# Altium integrated library NSC Switcher.IntLib: 867 symbols (part 4 of 21)
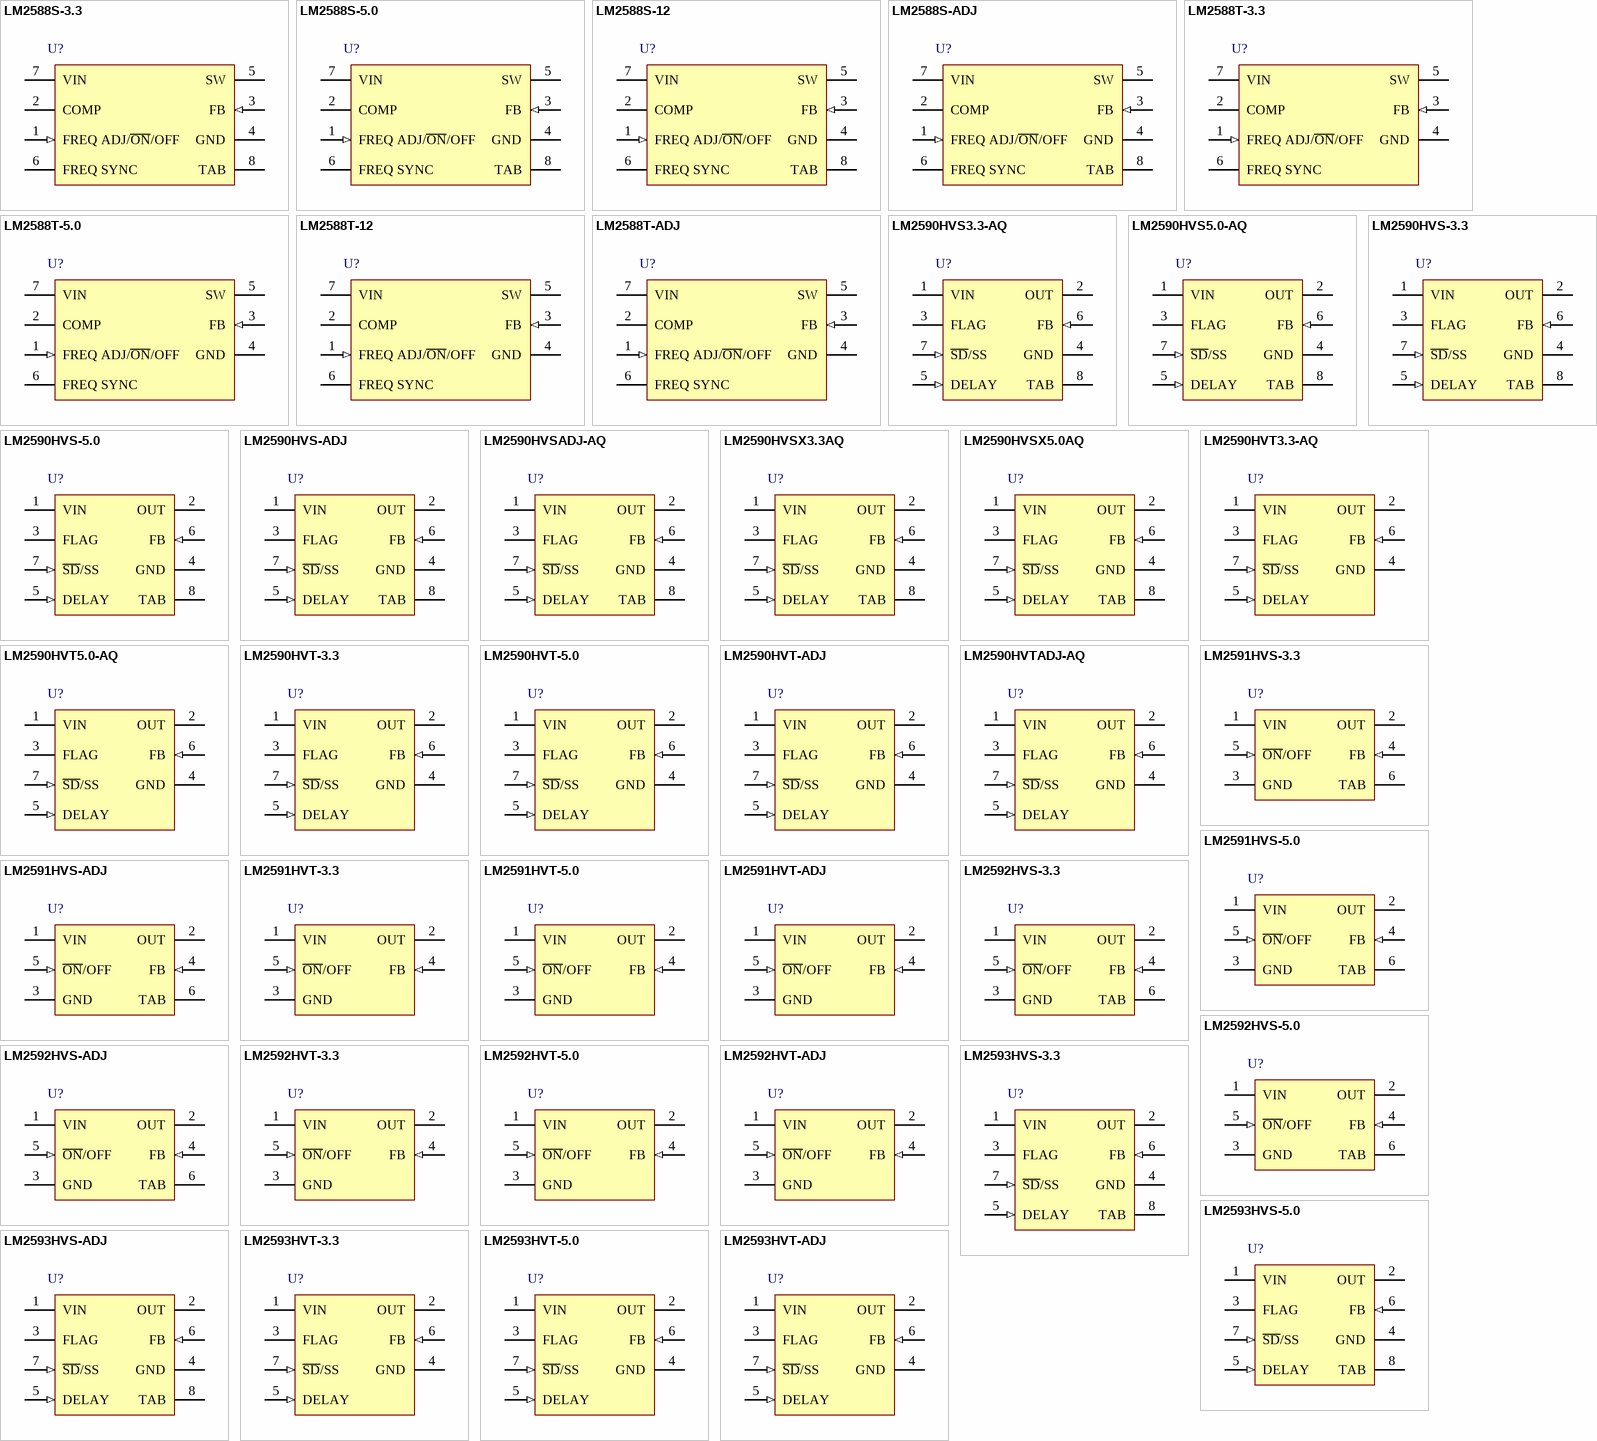
[diagram p29: symbols LM2588S-3.3 to LM2593HVT-ADJ]

## LM2590HVSADJ-AQ
designator U?
SIMPLE SWITCHER Power Converter 150 KHz 1A Step-Down Voltage Regulator with Features; PartNumber: LM2590HVSADJ-AQ; Manufacturer: National Semiconductor; PackageTopMarking: NSUZXYTT*LM2590HVS*ADJ-AQ P+; Published: 4-Dec-2008; PackageVersion: revE, Jul-2003; PackageReference: TS7B; Publisher: Altium Limited; PackageDescription: TO-263, Molded, .400 x .390 x .180in Body, 7 Lead, .050in Pitch, Surface Mount; CompType: Switcher; RoHS: N; PinCount: 7; Code_JEDEC: MO-169-AC; ComponentLink1Description: LM2590HV Datasheet; ComponentLink1URL: http://www.national.com/ds/LM/LM2590HV.pdf; ComponentLink2Description: LM2590HV Web Page; ComponentLink2URL: http://www.national.com/pf/LM/LM2590HV.html; ComponentLink3Description: TS7B Package Page; ComponentLink3URL: http://www.national.com/packaging/folders/ts7b.html
footprint TS7B_N (D2-PAK, 8-Leads, Body 8.6x10.2mm, Pitch 1.27mm, Lead Span 14.1mm, IPC Medium Density)
footprint TS7B_L (D2-PAK, 8-Leads, Body 8.6x10.2mm, Pitch 1.27mm, Lead Span 14.1mm, IPC High Density)
footprint TS7B_M (D2-PAK, 8-Leads, Body 8.6x10.2mm, Pitch 1.27mm, Lead Span 14.1mm, IPC Low Density)
footprint TS7B_M (D2-PAK, 8-Leads, Body 8.6x10.2mm, Pitch 1.27mm, Lead Span 14.1mm, IPC Low Density)
pins: 1 VIN (power), 2 OUT (power), 3 FLAG (oc), 4 GND (power), 5 DELAY (in), 6 FB (in), 7 ~{SD}/SS (in), 8 TAB (power)

## LM2590HVSX3.3AQ
designator U?
SIMPLE SWITCHER Power Converter 150 KHz 1A Step-Down Voltage Regulator with Features; PartNumber: LM2590HVSX3.3AQ; Manufacturer: National Semiconductor; PackageTopMarking: NSUZXYTT*LM2590HVS*3.3-AQ P+; Published: 4-Dec-2008; PackageVersion: revE, Jul-2003; PackageReference: TS7B; Publisher: Altium Limited; PackageDescription: TO-263, Molded, .400 x .390 x .180in Body, 7 Lead, .050in Pitch, Surface Mount; CompType: Switcher; RoHS: N; PinCount: 7; Code_JEDEC: MO-169-AC; ComponentLink1Description: LM2590HV Datasheet; ComponentLink1URL: http://www.national.com/ds/LM/LM2590HV.pdf; ComponentLink2Description: LM2590HV Web Page; ComponentLink2URL: http://www.national.com/pf/LM/LM2590HV.html; ComponentLink3Description: TS7B Package Page; ComponentLink3URL: http://www.national.com/packaging/folders/ts7b.html
footprint TS7B_N (D2-PAK, 8-Leads, Body 8.6x10.2mm, Pitch 1.27mm, Lead Span 14.1mm, IPC Medium Density)
footprint TS7B_L (D2-PAK, 8-Leads, Body 8.6x10.2mm, Pitch 1.27mm, Lead Span 14.1mm, IPC High Density)
footprint TS7B_M (D2-PAK, 8-Leads, Body 8.6x10.2mm, Pitch 1.27mm, Lead Span 14.1mm, IPC Low Density)
footprint TS7B_M (D2-PAK, 8-Leads, Body 8.6x10.2mm, Pitch 1.27mm, Lead Span 14.1mm, IPC Low Density)
pins: 1 VIN (power), 2 OUT (power), 3 FLAG (oc), 4 GND (power), 5 DELAY (in), 6 FB (in), 7 ~{SD}/SS (in), 8 TAB (power)

## LM2590HVSX5.0AQ
designator U?
SIMPLE SWITCHER Power Converter 150 KHz 1A Step-Down Voltage Regulator with Features; PartNumber: LM2590HVSX5.0AQ; Manufacturer: National Semiconductor; PackageTopMarking: NSUZXYTT*LM2590HVS*5.0AQ P+; Published: 4-Dec-2008; PackageVersion: revE, Jul-2003; PackageReference: TS7B; Publisher: Altium Limited; PackageDescription: TO-263, Molded, .400 x .390 x .180in Body, 7 Lead, .050in Pitch, Surface Mount; CompType: Switcher; RoHS: N; PinCount: 7; Code_JEDEC: MO-169-AC; ComponentLink1Description: LM2590HV Datasheet; ComponentLink1URL: http://www.national.com/ds/LM/LM2590HV.pdf; ComponentLink2Description: LM2590HV Web Page; ComponentLink2URL: http://www.national.com/pf/LM/LM2590HV.html; ComponentLink3Description: TS7B Package Page; ComponentLink3URL: http://www.national.com/packaging/folders/ts7b.html
footprint TS7B_N (D2-PAK, 8-Leads, Body 8.6x10.2mm, Pitch 1.27mm, Lead Span 14.1mm, IPC Medium Density)
footprint TS7B_L (D2-PAK, 8-Leads, Body 8.6x10.2mm, Pitch 1.27mm, Lead Span 14.1mm, IPC High Density)
footprint TS7B_M (D2-PAK, 8-Leads, Body 8.6x10.2mm, Pitch 1.27mm, Lead Span 14.1mm, IPC Low Density)
footprint TS7B_M (D2-PAK, 8-Leads, Body 8.6x10.2mm, Pitch 1.27mm, Lead Span 14.1mm, IPC Low Density)
pins: 1 VIN (power), 2 OUT (power), 3 FLAG (oc), 4 GND (power), 5 DELAY (in), 6 FB (in), 7 ~{SD}/SS (in), 8 TAB (power)

## LM2590HVT3.3-AQ
designator U?
SIMPLE SWITCHER Power Converter 150 KHz 1A Step-Down Voltage Regulator with Features; PartNumber: LM2590HVT3.3-AQ; Manufacturer: National Semiconductor; PackageTopMarking: NSUZXYTT*LM2590HVT*3.3-AQ P+; Published: 4-Dec-2008; PackageVersion: revC, Apr-1999; PackageReference: TA07B; Publisher: Altium Limited; PackageDescription: TO-220, Molded, .400 x .590 x .180in Body, 7 Lead, .050in Pitch, Staggered; CompType: Switcher; RoHS: N; PinCount: 7; Code_JEDEC: TO-220-AB; ComponentLink1Description: LM2590HV Datasheet; ComponentLink1URL: http://www.national.com/ds/LM/LM2590HV.pdf; ComponentLink2Description: LM2590HV Web Page; ComponentLink2URL: http://www.national.com/pf/LM/LM2590HV.html; ComponentLink3Description: TA07B Package Page; ComponentLink3URL: http://www.national.com/packaging/folders/ta07b.html
footprint TA07B (TO, Thru-Hole, Vertical, Heatsink Mounted; 7 Bent Staggered Leads; Pitch 1.27 mm)
pins: 1 VIN (power), 2 OUT (power), 3 FLAG (oc), 4 GND (power), 5 DELAY (in), 6 FB (in), 7 ~{SD}/SS (in)

## LM2590HVT5.0-AQ
designator U?
SIMPLE SWITCHER Power Converter 150 KHz 1A Step-Down Voltage Regulator with Features; PartNumber: LM2590HVT5.0-AQ; Manufacturer: National Semiconductor; PackageTopMarking: NSUZXYTT*LM2590HVT*5.0-AQ P+; Published: 4-Dec-2008; PackageVersion: revC, Apr-1999; PackageReference: TA07B; Publisher: Altium Limited; PackageDescription: TO-220, Molded, .400 x .590 x .180in Body, 7 Lead, .050in Pitch, Staggered; CompType: Switcher; RoHS: N; PinCount: 7; Code_JEDEC: TO-220-AB; ComponentLink1Description: LM2590HV Datasheet; ComponentLink1URL: http://www.national.com/ds/LM/LM2590HV.pdf; ComponentLink2Description: LM2590HV Web Page; ComponentLink2URL: http://www.national.com/pf/LM/LM2590HV.html; ComponentLink3Description: TA07B Package Page; ComponentLink3URL: http://www.national.com/packaging/folders/ta07b.html
footprint TA07B (TO, Thru-Hole, Vertical, Heatsink Mounted; 7 Bent Staggered Leads; Pitch 1.27 mm)
pins: 1 VIN (power), 2 OUT (power), 3 FLAG (oc), 4 GND (power), 5 DELAY (in), 6 FB (in), 7 ~{SD}/SS (in)

## LM2590HVT-3.3
designator U?
SIMPLE SWITCHER Power Converter 150 KHz 1A Step-Down Voltage Regulator with Features; PartNumber: LM2590HVT-3.3; Manufacturer: National Semiconductor; PackageTopMarking: NSUZXYTT*LM2590HVT*-3.3 P+; Published: 4-Dec-2008; PackageVersion: revC, Apr-1999; PackageReference: TA07B; Publisher: Altium Limited; PackageDescription: TO-220, Molded, .400 x .590 x .180in Body, 7 Lead, .050in Pitch, Staggered; CompType: Switcher; RoHS: Y; PinCount: 7; DigiKeyPartNumber: LM2590HVT-3.3-ND; Code_JEDEC: TO-220-AB; ComponentLink1Description: LM2590HV Datasheet; ComponentLink1URL: http://www.national.com/ds/LM/LM2590HV.pdf; ComponentLink2Description: LM2590HV Web Page; ComponentLink2URL: http://www.national.com/pf/LM/LM2590HV.html; ComponentLink3Description: TA07B Package Page; ComponentLink3URL: http://www.national.com/packaging/folders/ta07b.html
footprint TA07B (TO, Thru-Hole, Vertical, Heatsink Mounted; 7 Bent Staggered Leads; Pitch 1.27 mm)
pins: 1 VIN (power), 2 OUT (power), 3 FLAG (oc), 4 GND (power), 5 DELAY (in), 6 FB (in), 7 ~{SD}/SS (in)

## LM2590HVT-5.0
designator U?
SIMPLE SWITCHER Power Converter 150 KHz 1A Step-Down Voltage Regulator with Features; PartNumber: LM2590HVT-5.0; Manufacturer: National Semiconductor; PackageTopMarking: NSUZXYTT*LM2590HVT*-5.0 P+; Published: 4-Dec-2008; PackageVersion: revC, Apr-1999; PackageReference: TA07B; Publisher: Altium Limited; PackageDescription: TO-220, Molded, .400 x .590 x .180in Body, 7 Lead, .050in Pitch, Staggered; CompType: Switcher; RoHS: Y; PinCount: 7; DigiKeyPartNumber: LM2590HVT-5.0-ND; Code_JEDEC: TO-220-AB; ComponentLink1Description: LM2590HV Datasheet; ComponentLink1URL: http://www.national.com/ds/LM/LM2590HV.pdf; ComponentLink2Description: LM2590HV Web Page; ComponentLink2URL: http://www.national.com/pf/LM/LM2590HV.html; ComponentLink3Description: TA07B Package Page; ComponentLink3URL: http://www.national.com/packaging/folders/ta07b.html
footprint TA07B (TO, Thru-Hole, Vertical, Heatsink Mounted; 7 Bent Staggered Leads; Pitch 1.27 mm)
pins: 1 VIN (power), 2 OUT (power), 3 FLAG (oc), 4 GND (power), 5 DELAY (in), 6 FB (in), 7 ~{SD}/SS (in)

## LM2590HVT-ADJ
designator U?
SIMPLE SWITCHER Power Converter 150 KHz 1A Step-Down Voltage Regulator with Features; PartNumber: LM2590HVT-ADJ; Manufacturer: National Semiconductor; PackageTopMarking: NSUZXYTT*LM2590HVT*-ADJ P+; Published: 4-Dec-2008; PackageVersion: revC, Apr-1999; PackageReference: TA07B; Publisher: Altium Limited; PackageDescription: TO-220, Molded, .400 x .590 x .180in Body, 7 Lead, .050in Pitch, Staggered; CompType: Switcher; RoHS: O; PinCount: 7; DigiKeyPartNumber: LM2590HVT-ADJ-ND; Code_JEDEC: TO-220-AB; ComponentLink1Description: LM2590HV Datasheet; ComponentLink1URL: http://www.national.com/ds/LM/LM2590HV.pdf; ComponentLink2Description: LM2590HV Web Page; ComponentLink2URL: http://www.national.com/pf/LM/LM2590HV.html; ComponentLink3Description: TA07B Package Page; ComponentLink3URL: http://www.national.com/packaging/folders/ta07b.html
footprint TA07B (TO, Thru-Hole, Vertical, Heatsink Mounted; 7 Bent Staggered Leads; Pitch 1.27 mm)
pins: 1 VIN (power), 2 OUT (power), 3 FLAG (oc), 4 GND (power), 5 DELAY (in), 6 FB (in), 7 ~{SD}/SS (in)

## LM2590HVTADJ-AQ
designator U?
SIMPLE SWITCHER Power Converter 150 KHz 1A Step-Down Voltage Regulator with Features; PartNumber: LM2590HVTADJ-AQ; Manufacturer: National Semiconductor; PackageTopMarking: NSUZXYTT*LM2590HVT*ADJ-AQ P+; Published: 4-Dec-2008; PackageVersion: revC, Apr-1999; PackageReference: TA07B; Publisher: Altium Limited; PackageDescription: TO-220, Molded, .400 x .590 x .180in Body, 7 Lead, .050in Pitch, Staggered; CompType: Switcher; RoHS: N; PinCount: 7; Code_JEDEC: TO-220-AB; ComponentLink1Description: LM2590HV Datasheet; ComponentLink1URL: http://www.national.com/ds/LM/LM2590HV.pdf; ComponentLink2Description: LM2590HV Web Page; ComponentLink2URL: http://www.national.com/pf/LM/LM2590HV.html; ComponentLink3Description: TA07B Package Page; ComponentLink3URL: http://www.national.com/packaging/folders/ta07b.html
footprint TA07B (TO, Thru-Hole, Vertical, Heatsink Mounted; 7 Bent Staggered Leads; Pitch 1.27 mm)
pins: 1 VIN (power), 2 OUT (power), 3 FLAG (oc), 4 GND (power), 5 DELAY (in), 6 FB (in), 7 ~{SD}/SS (in)

## LM2591HVS-3.3
designator U?
SIMPLE SWITCHER Power Converter 150 kHz 1A Step-Down Voltage Regulator; PartNumber: LM2591HVS-3.3; Manufacturer: National Semiconductor; PackageTopMarking: NSUZXYTT*LM2591HVS*-3.3 P+; Published: 4-Dec-2008; PackageVersion: revD, Apr-2005; PackageReference: TS5B; Publisher: Altium Limited; PackageDescription: TO-263, Molded, .400 x .390 x .180in, 5 Lead, .067in Pitch, Surface Mount; CompType: Switcher; RoHS: Y; PinCount: 5; DigiKeyPartNumber: LM2591HVS-3.3-ND; Code_JEDEC: MO-169-AB; ComponentLink1Description: LM2591HV Datasheet; ComponentLink1URL: http://www.national.com/ds/LM/LM2591HV.pdf; ComponentLink2Description: LM2591HV Web Page; ComponentLink2URL: http://www.national.com/pf/LM/LM2591HV.html; ComponentLink3Description: TS5B Package Page; ComponentLink3URL: http://www.national.com/packaging/folders/ts5b.html
footprint TS5B_N (D2-PAK, 6-Leads, Body 8.6x10.2mm, Pitch 1.7mm, Lead Span 14.1mm, IPC Medium Density)
footprint TS5B_L (D2-PAK, 6-Leads, Body 8.6x10.2mm, Pitch 1.7mm, Lead Span 14.1mm, IPC High Density)
footprint TS5B_M (D2-PAK, 6-Leads, Body 8.6x10.2mm, Pitch 1.7mm, Lead Span 14.1mm, IPC Low Density)
footprint TS5B_M (D2-PAK, 6-Leads, Body 8.6x10.2mm, Pitch 1.7mm, Lead Span 14.1mm, IPC Low Density)
pins: 1 VIN (power), 2 OUT (power), 3 GND (power), 4 FB (in), 5 ~{ON}/OFF (in), 6 TAB (power)

## LM2591HVS-5.0
designator U?
SIMPLE SWITCHER Power Converter 150 kHz 1A Step-Down Voltage Regulator; PartNumber: LM2591HVS-5.0; Manufacturer: National Semiconductor; PackageTopMarking: NSUZXYTT*LM2591HVS*-5.0 P+; Published: 4-Dec-2008; PackageVersion: revD, Apr-2005; PackageReference: TS5B; Publisher: Altium Limited; PackageDescription: TO-263, Molded, .400 x .390 x .180in, 5 Lead, .067in Pitch, Surface Mount; CompType: Switcher; RoHS: Y; PinCount: 5; DigiKeyPartNumber: LM2591HVS-5.0-ND; Code_JEDEC: MO-169-AB; ComponentLink1Description: LM2591HV Datasheet; ComponentLink1URL: http://www.national.com/ds/LM/LM2591HV.pdf; ComponentLink2Description: LM2591HV Web Page; ComponentLink2URL: http://www.national.com/pf/LM/LM2591HV.html; ComponentLink3Description: TS5B Package Page; ComponentLink3URL: http://www.national.com/packaging/folders/ts5b.html
footprint TS5B_N (D2-PAK, 6-Leads, Body 8.6x10.2mm, Pitch 1.7mm, Lead Span 14.1mm, IPC Medium Density)
footprint TS5B_L (D2-PAK, 6-Leads, Body 8.6x10.2mm, Pitch 1.7mm, Lead Span 14.1mm, IPC High Density)
footprint TS5B_M (D2-PAK, 6-Leads, Body 8.6x10.2mm, Pitch 1.7mm, Lead Span 14.1mm, IPC Low Density)
footprint TS5B_M (D2-PAK, 6-Leads, Body 8.6x10.2mm, Pitch 1.7mm, Lead Span 14.1mm, IPC Low Density)
pins: 1 VIN (power), 2 OUT (power), 3 GND (power), 4 FB (in), 5 ~{ON}/OFF (in), 6 TAB (power)

## LM2591HVS-ADJ
designator U?
SIMPLE SWITCHER Power Converter 150 kHz 1A Step-Down Voltage Regulator; PartNumber: LM2591HVS-ADJ; Manufacturer: National Semiconductor; PackageTopMarking: NSUZXYTT*LM2591HVS*-ADJ P+; Published: 4-Dec-2008; PackageVersion: revD, Apr-2005; PackageReference: TS5B; Publisher: Altium Limited; PackageDescription: TO-263, Molded, .400 x .390 x .180in, 5 Lead, .067in Pitch, Surface Mount; CompType: Switcher; RoHS: O; PinCount: 5; DigiKeyPartNumber: LM2591HVS-ADJ-ND; Code_JEDEC: MO-169-AB; ComponentLink1Description: LM2591HV Datasheet; ComponentLink1URL: http://www.national.com/ds/LM/LM2591HV.pdf; ComponentLink2Description: LM2591HV Web Page; ComponentLink2URL: http://www.national.com/pf/LM/LM2591HV.html; ComponentLink3Description: TS5B Package Page; ComponentLink3URL: http://www.national.com/packaging/folders/ts5b.html
footprint TS5B_N (D2-PAK, 6-Leads, Body 8.6x10.2mm, Pitch 1.7mm, Lead Span 14.1mm, IPC Medium Density)
footprint TS5B_L (D2-PAK, 6-Leads, Body 8.6x10.2mm, Pitch 1.7mm, Lead Span 14.1mm, IPC High Density)
footprint TS5B_M (D2-PAK, 6-Leads, Body 8.6x10.2mm, Pitch 1.7mm, Lead Span 14.1mm, IPC Low Density)
footprint TS5B_M (D2-PAK, 6-Leads, Body 8.6x10.2mm, Pitch 1.7mm, Lead Span 14.1mm, IPC Low Density)
pins: 1 VIN (power), 2 OUT (power), 3 GND (power), 4 FB (in), 5 ~{ON}/OFF (in), 6 TAB (power)

## LM2591HVT-3.3
designator U?
SIMPLE SWITCHER Power Converter 150 kHz 1A Step-Down Voltage Regulator; PartNumber: LM2591HVT-3.3; Manufacturer: National Semiconductor; PackageTopMarking: NSUZXYTT*LM2591HVT*-3.3 P+; Published: 4-Dec-2008; PackageVersion: revA, Oct-1989; PackageReference: T05D; Publisher: Altium Limited; PackageDescription: TO-220, Molded, Stagger Bend, 5 Lead; CompType: Switcher; RoHS: Y; PinCount: 5; DigiKeyPartNumber: LM2591HVT-3.3-ND; ComponentLink1Description: LM2591HV Datasheet; ComponentLink1URL: http://www.national.com/ds/LM/LM2591HV.pdf; ComponentLink2Description: LM2591HV Web Page; ComponentLink2URL: http://www.national.com/pf/LM/LM2591HV.html; ComponentLink3Description: T05D Package Page; ComponentLink3URL: http://www.national.com/packaging/folders/t05d.html
footprint T05D (TO, Thru-Hole, Vertical, Heatsink Mounted; 5 Bent Staggered Leads; Pitch 1.7 mm)
pins: 1 VIN (power), 2 OUT (power), 3 GND (power), 4 FB (in), 5 ~{ON}/OFF (in)

## LM2591HVT-5.0
designator U?
SIMPLE SWITCHER Power Converter 150 kHz 1A Step-Down Voltage Regulator; PartNumber: LM2591HVT-5.0; Manufacturer: National Semiconductor; PackageTopMarking: NSUZXYTT*LM2591HVT*-5.0 P+; Published: 4-Dec-2008; PackageVersion: revA, Oct-1989; PackageReference: T05D; Publisher: Altium Limited; PackageDescription: TO-220, Molded, Stagger Bend, 5 Lead; CompType: Switcher; RoHS: Y; PinCount: 5; DigiKeyPartNumber: LM2591HVT-5.0-ND; ComponentLink1Description: LM2591HV Datasheet; ComponentLink1URL: http://www.national.com/ds/LM/LM2591HV.pdf; ComponentLink2Description: LM2591HV Web Page; ComponentLink2URL: http://www.national.com/pf/LM/LM2591HV.html; ComponentLink3Description: T05D Package Page; ComponentLink3URL: http://www.national.com/packaging/folders/t05d.html
footprint T05D (TO, Thru-Hole, Vertical, Heatsink Mounted; 5 Bent Staggered Leads; Pitch 1.7 mm)
pins: 1 VIN (power), 2 OUT (power), 3 GND (power), 4 FB (in), 5 ~{ON}/OFF (in)

## LM2591HVT-ADJ
designator U?
SIMPLE SWITCHER Power Converter 150 kHz 1A Step-Down Voltage Regulator; PartNumber: LM2591HVT-ADJ; Manufacturer: National Semiconductor; PackageTopMarking: NSUZXYTT*LM2591HVT*-ADJ P+; Published: 4-Dec-2008; PackageVersion: revA, Oct-1989; PackageReference: T05D; Publisher: Altium Limited; PackageDescription: TO-220, Molded, Stagger Bend, 5 Lead; CompType: Switcher; RoHS: Y; PinCount: 5; DigiKeyPartNumber: LM2591HVT-ADJ-ND; ComponentLink1Description: LM2591HV Datasheet; ComponentLink1URL: http://www.national.com/ds/LM/LM2591HV.pdf; ComponentLink2Description: LM2591HV Web Page; ComponentLink2URL: http://www.national.com/pf/LM/LM2591HV.html; ComponentLink3Description: T05D Package Page; ComponentLink3URL: http://www.national.com/packaging/folders/t05d.html
footprint T05D (TO, Thru-Hole, Vertical, Heatsink Mounted; 5 Bent Staggered Leads; Pitch 1.7 mm)
pins: 1 VIN (power), 2 OUT (power), 3 GND (power), 4 FB (in), 5 ~{ON}/OFF (in)

## LM2592HVS-3.3
designator U?
SIMPLE SWITCHER Power Converter 150 KHz 2A Step-Down Voltage Regulator; PartNumber: LM2592HVS-3.3; Manufacturer: National Semiconductor; PackageTopMarking: NSUZXYTT*LM2592HVS*-3.3 P+; Published: 4-Dec-2008; PackageVersion: revD, Apr-2005; PackageReference: TS5B; Publisher: Altium Limited; PackageDescription: TO-263, Molded, .400 x .390 x .180in, 5 Lead, .067in Pitch, Surface Mount; CompType: Switcher; RoHS: O; PinCount: 5; DigiKeyPartNumber: LM2592HVS-3.3-ND; Code_JEDEC: MO-169-AB; ComponentLink1Description: LM2592HV Datasheet; ComponentLink1URL: http://www.national.com/ds/LM/LM2592HV.pdf; ComponentLink2Description: LM2592HV Web Page; ComponentLink2URL: http://www.national.com/pf/LM/LM2592HV.html; ComponentLink3Description: TS5B Package Page; ComponentLink3URL: http://www.national.com/packaging/folders/ts5b.html
footprint TS5B_N (D2-PAK, 6-Leads, Body 8.6x10.2mm, Pitch 1.7mm, Lead Span 14.1mm, IPC Medium Density)
footprint TS5B_L (D2-PAK, 6-Leads, Body 8.6x10.2mm, Pitch 1.7mm, Lead Span 14.1mm, IPC High Density)
footprint TS5B_M (D2-PAK, 6-Leads, Body 8.6x10.2mm, Pitch 1.7mm, Lead Span 14.1mm, IPC Low Density)
footprint TS5B_M (D2-PAK, 6-Leads, Body 8.6x10.2mm, Pitch 1.7mm, Lead Span 14.1mm, IPC Low Density)
pins: 1 VIN (power), 2 OUT (power), 3 GND (power), 4 FB (in), 5 ~{ON}/OFF (in), 6 TAB (power)

## LM2592HVS-5.0
designator U?
SIMPLE SWITCHER Power Converter 150 KHz 2A Step-Down Voltage Regulator; PartNumber: LM2592HVS-5.0; Manufacturer: National Semiconductor; PackageTopMarking: NSUZXYTT*LM2592HVS*-5.0 P+; Published: 4-Dec-2008; PackageVersion: revD, Apr-2005; PackageReference: TS5B; Publisher: Altium Limited; PackageDescription: TO-263, Molded, .400 x .390 x .180in, 5 Lead, .067in Pitch, Surface Mount; CompType: Switcher; RoHS: O; PinCount: 5; DigiKeyPartNumber: LM2592HVS-5.0-ND; Code_JEDEC: MO-169-AB; ComponentLink1Description: LM2592HV Datasheet; ComponentLink1URL: http://www.national.com/ds/LM/LM2592HV.pdf; ComponentLink2Description: LM2592HV Web Page; ComponentLink2URL: http://www.national.com/pf/LM/LM2592HV.html; ComponentLink3Description: TS5B Package Page; ComponentLink3URL: http://www.national.com/packaging/folders/ts5b.html
footprint TS5B_N (D2-PAK, 6-Leads, Body 8.6x10.2mm, Pitch 1.7mm, Lead Span 14.1mm, IPC Medium Density)
footprint TS5B_L (D2-PAK, 6-Leads, Body 8.6x10.2mm, Pitch 1.7mm, Lead Span 14.1mm, IPC High Density)
footprint TS5B_M (D2-PAK, 6-Leads, Body 8.6x10.2mm, Pitch 1.7mm, Lead Span 14.1mm, IPC Low Density)
footprint TS5B_M (D2-PAK, 6-Leads, Body 8.6x10.2mm, Pitch 1.7mm, Lead Span 14.1mm, IPC Low Density)
pins: 1 VIN (power), 2 OUT (power), 3 GND (power), 4 FB (in), 5 ~{ON}/OFF (in), 6 TAB (power)

## LM2592HVS-ADJ
designator U?
SIMPLE SWITCHER Power Converter 150 KHz 2A Step-Down Voltage Regulator; PartNumber: LM2592HVS-ADJ; Manufacturer: National Semiconductor; PackageTopMarking: NSUZXYTT*LM2592HVS*-ADJ P+; Published: 4-Dec-2008; PackageVersion: revD, Apr-2005; PackageReference: TS5B; Publisher: Altium Limited; PackageDescription: TO-263, Molded, .400 x .390 x .180in, 5 Lead, .067in Pitch, Surface Mount; CompType: Switcher; RoHS: O; PinCount: 5; DigiKeyPartNumber: LM2592HVS-ADJ-ND; Code_JEDEC: MO-169-AB; ComponentLink1Description: LM2592HV Datasheet; ComponentLink1URL: http://www.national.com/ds/LM/LM2592HV.pdf; ComponentLink2Description: LM2592HV Web Page; ComponentLink2URL: http://www.national.com/pf/LM/LM2592HV.html; ComponentLink3Description: TS5B Package Page; ComponentLink3URL: http://www.national.com/packaging/folders/ts5b.html
footprint TS5B_N (D2-PAK, 6-Leads, Body 8.6x10.2mm, Pitch 1.7mm, Lead Span 14.1mm, IPC Medium Density)
footprint TS5B_L (D2-PAK, 6-Leads, Body 8.6x10.2mm, Pitch 1.7mm, Lead Span 14.1mm, IPC High Density)
footprint TS5B_M (D2-PAK, 6-Leads, Body 8.6x10.2mm, Pitch 1.7mm, Lead Span 14.1mm, IPC Low Density)
footprint TS5B_M (D2-PAK, 6-Leads, Body 8.6x10.2mm, Pitch 1.7mm, Lead Span 14.1mm, IPC Low Density)
pins: 1 VIN (power), 2 OUT (power), 3 GND (power), 4 FB (in), 5 ~{ON}/OFF (in), 6 TAB (power)

## LM2592HVT-3.3
designator U?
SIMPLE SWITCHER Power Converter 150 KHz 2A Step-Down Voltage Regulator; PartNumber: LM2592HVT-3.3; Manufacturer: National Semiconductor; PackageTopMarking: NSUZXYTT*LM2592HVT*-3.3 P+; Published: 4-Dec-2008; PackageVersion: revA, Oct-1989; PackageReference: T05D; Publisher: Altium Limited; PackageDescription: TO-220, Molded, Stagger Bend, 5 Lead; CompType: Switcher; RoHS: Y; PinCount: 5; DigiKeyPartNumber: LM2592HVT-3.3-ND; ComponentLink1Description: LM2592HV Datasheet; ComponentLink1URL: http://www.national.com/ds/LM/LM2592HV.pdf; ComponentLink2Description: LM2592HV Web Page; ComponentLink2URL: http://www.national.com/pf/LM/LM2592HV.html; ComponentLink3Description: T05D Package Page; ComponentLink3URL: http://www.national.com/packaging/folders/t05d.html
footprint T05D (TO, Thru-Hole, Vertical, Heatsink Mounted; 5 Bent Staggered Leads; Pitch 1.7 mm)
pins: 1 VIN (power), 2 OUT (power), 3 GND (power), 4 FB (in), 5 ~{ON}/OFF (in)

## LM2592HVT-5.0
designator U?
SIMPLE SWITCHER Power Converter 150 KHz 2A Step-Down Voltage Regulator; PartNumber: LM2592HVT-5.0; Manufacturer: National Semiconductor; PackageTopMarking: NSUZXYTT*LM2592HVT*-5.0 P+; Published: 4-Dec-2008; PackageVersion: revA, Oct-1989; PackageReference: T05D; Publisher: Altium Limited; PackageDescription: TO-220, Molded, Stagger Bend, 5 Lead; CompType: Switcher; RoHS: Y; PinCount: 5; DigiKeyPartNumber: LM2592HVT-5.0-ND; ComponentLink1Description: LM2592HV Datasheet; ComponentLink1URL: http://www.national.com/ds/LM/LM2592HV.pdf; ComponentLink2Description: LM2592HV Web Page; ComponentLink2URL: http://www.national.com/pf/LM/LM2592HV.html; ComponentLink3Description: T05D Package Page; ComponentLink3URL: http://www.national.com/packaging/folders/t05d.html
footprint T05D (TO, Thru-Hole, Vertical, Heatsink Mounted; 5 Bent Staggered Leads; Pitch 1.7 mm)
pins: 1 VIN (power), 2 OUT (power), 3 GND (power), 4 FB (in), 5 ~{ON}/OFF (in)

## LM2592HVT-ADJ
designator U?
SIMPLE SWITCHER Power Converter 150 KHz 2A Step-Down Voltage Regulator; PartNumber: LM2592HVT-ADJ; Manufacturer: National Semiconductor; PackageTopMarking: NSUZXYTT*LM2592HVT*-ADJ P+; Published: 4-Dec-2008; PackageVersion: revA, Oct-1989; PackageReference: T05D; Publisher: Altium Limited; PackageDescription: TO-220, Molded, Stagger Bend, 5 Lead; CompType: Switcher; RoHS: O; PinCount: 5; DigiKeyPartNumber: LM2592HVT-ADJ-ND; ComponentLink1Description: LM2592HV Datasheet; ComponentLink1URL: http://www.national.com/ds/LM/LM2592HV.pdf; ComponentLink2Description: LM2592HV Web Page; ComponentLink2URL: http://www.national.com/pf/LM/LM2592HV.html; ComponentLink3Description: T05D Package Page; ComponentLink3URL: http://www.national.com/packaging/folders/t05d.html
footprint T05D (TO, Thru-Hole, Vertical, Heatsink Mounted; 5 Bent Staggered Leads; Pitch 1.7 mm)
pins: 1 VIN (power), 2 OUT (power), 3 GND (power), 4 FB (in), 5 ~{ON}/OFF (in)

## LM2593HVS-3.3
designator U?
SIMPLE SWITCHER Power Converter 150 KHz 2A Step-Down Voltage Regulator with Features; PartNumber: LM2593HVS-3.3; Manufacturer: National Semiconductor; PackageTopMarking: NSUZXYTT*LM2593HVS*-3.3 P+; Published: 4-Dec-2008; PackageVersion: revE, Jul-2003; PackageReference: TS7B; Publisher: Altium Limited; PackageDescription: TO-263, Molded, .400 x .390 x .180in Body, 7 Lead, .050in Pitch, Surface Mount; CompType: Switcher; RoHS: Y; PinCount: 7; DigiKeyPartNumber: LM2593HVS-3.3-ND; Code_JEDEC: MO-169-AC; ComponentLink1Description: LM2593HV Datasheet; ComponentLink1URL: http://www.national.com/ds/LM/LM2593HV.pdf; ComponentLink2Description: LM2593HV Web Page; ComponentLink2URL: http://www.national.com/pf/LM/LM2593HV.html; ComponentLink3Description: TS7B Package Page; ComponentLink3URL: http://www.national.com/packaging/folders/ts7b.html
footprint TS7B_N (D2-PAK, 8-Leads, Body 8.6x10.2mm, Pitch 1.27mm, Lead Span 14.1mm, IPC Medium Density)
footprint TS7B_L (D2-PAK, 8-Leads, Body 8.6x10.2mm, Pitch 1.27mm, Lead Span 14.1mm, IPC High Density)
footprint TS7B_M (D2-PAK, 8-Leads, Body 8.6x10.2mm, Pitch 1.27mm, Lead Span 14.1mm, IPC Low Density)
footprint TS7B_M (D2-PAK, 8-Leads, Body 8.6x10.2mm, Pitch 1.27mm, Lead Span 14.1mm, IPC Low Density)
pins: 1 VIN (power), 2 OUT (power), 3 FLAG (oc), 4 GND (power), 5 DELAY (in), 6 FB (in), 7 ~{SD}/SS (in), 8 TAB (power)

## LM2593HVS-5.0
designator U?
SIMPLE SWITCHER Power Converter 150 KHz 2A Step-Down Voltage Regulator with Features; PartNumber: LM2593HVS-5.0; Manufacturer: National Semiconductor; PackageTopMarking: NSUZXYTT*LM2593HVS*-5.0 P+; Published: 4-Dec-2008; PackageVersion: revE, Jul-2003; PackageReference: TS7B; Publisher: Altium Limited; PackageDescription: TO-263, Molded, .400 x .390 x .180in Body, 7 Lead, .050in Pitch, Surface Mount; CompType: Switcher; RoHS: Y; PinCount: 7; DigiKeyPartNumber: LM2593HVS-5.0-ND; Code_JEDEC: MO-169-AC; ComponentLink1Description: LM2593HV Datasheet; ComponentLink1URL: http://www.national.com/ds/LM/LM2593HV.pdf; ComponentLink2Description: LM2593HV Web Page; ComponentLink2URL: http://www.national.com/pf/LM/LM2593HV.html; ComponentLink3Description: TS7B Package Page; ComponentLink3URL: http://www.national.com/packaging/folders/ts7b.html
footprint TS7B_N (D2-PAK, 8-Leads, Body 8.6x10.2mm, Pitch 1.27mm, Lead Span 14.1mm, IPC Medium Density)
footprint TS7B_L (D2-PAK, 8-Leads, Body 8.6x10.2mm, Pitch 1.27mm, Lead Span 14.1mm, IPC High Density)
footprint TS7B_M (D2-PAK, 8-Leads, Body 8.6x10.2mm, Pitch 1.27mm, Lead Span 14.1mm, IPC Low Density)
footprint TS7B_M (D2-PAK, 8-Leads, Body 8.6x10.2mm, Pitch 1.27mm, Lead Span 14.1mm, IPC Low Density)
pins: 1 VIN (power), 2 OUT (power), 3 FLAG (oc), 4 GND (power), 5 DELAY (in), 6 FB (in), 7 ~{SD}/SS (in), 8 TAB (power)

## LM2593HVS-ADJ
designator U?
SIMPLE SWITCHER Power Converter 150 KHz 2A Step-Down Voltage Regulator with Features; PartNumber: LM2593HVS-ADJ; Manufacturer: National Semiconductor; PackageTopMarking: NSUZXYTT*LM2593HVS*-ADJ P+; Published: 4-Dec-2008; PackageVersion: revE, Jul-2003; PackageReference: TS7B; Publisher: Altium Limited; PackageDescription: TO-263, Molded, .400 x .390 x .180in Body, 7 Lead, .050in Pitch, Surface Mount; CompType: Switcher; RoHS: O; PinCount: 7; DigiKeyPartNumber: LM2593HVS-ADJ-ND; Code_JEDEC: MO-169-AC; ComponentLink1Description: LM2593HV Datasheet; ComponentLink1URL: http://www.national.com/ds/LM/LM2593HV.pdf; ComponentLink2Description: LM2593HV Web Page; ComponentLink2URL: http://www.national.com/pf/LM/LM2593HV.html; ComponentLink3Description: TS7B Package Page; ComponentLink3URL: http://www.national.com/packaging/folders/ts7b.html
footprint TS7B_N (D2-PAK, 8-Leads, Body 8.6x10.2mm, Pitch 1.27mm, Lead Span 14.1mm, IPC Medium Density)
footprint TS7B_L (D2-PAK, 8-Leads, Body 8.6x10.2mm, Pitch 1.27mm, Lead Span 14.1mm, IPC High Density)
footprint TS7B_M (D2-PAK, 8-Leads, Body 8.6x10.2mm, Pitch 1.27mm, Lead Span 14.1mm, IPC Low Density)
footprint TS7B_M (D2-PAK, 8-Leads, Body 8.6x10.2mm, Pitch 1.27mm, Lead Span 14.1mm, IPC Low Density)
pins: 1 VIN (power), 2 OUT (power), 3 FLAG (oc), 4 GND (power), 5 DELAY (in), 6 FB (in), 7 ~{SD}/SS (in), 8 TAB (power)

## LM2593HVT-3.3
designator U?
SIMPLE SWITCHER Power Converter 150 KHz 2A Step-Down Voltage Regulator with Features; PartNumber: LM2593HVT-3.3; Manufacturer: National Semiconductor; PackageTopMarking: NSUZXYTT*LM2593HVT*-3.3 P+; Published: 4-Dec-2008; PackageVersion: revC, Apr-1999; PackageReference: TA07B; Publisher: Altium Limited; PackageDescription: TO-220, Molded, .400 x .590 x .180in Body, 7 Lead, .050in Pitch, Staggered; CompType: Switcher; RoHS: Y; PinCount: 7; DigiKeyPartNumber: LM2593HVT-3.3-ND; Code_JEDEC: TO-220-AB; ComponentLink1Description: LM2593HV Datasheet; ComponentLink1URL: http://www.national.com/ds/LM/LM2593HV.pdf; ComponentLink2Description: LM2593HV Web Page; ComponentLink2URL: http://www.national.com/pf/LM/LM2593HV.html; ComponentLink3Description: TA07B Package Page; ComponentLink3URL: http://www.national.com/packaging/folders/ta07b.html
footprint TA07B (TO, Thru-Hole, Vertical, Heatsink Mounted; 7 Bent Staggered Leads; Pitch 1.27 mm)
pins: 1 VIN (power), 2 OUT (power), 3 FLAG (oc), 4 GND (power), 5 DELAY (in), 6 FB (in), 7 ~{SD}/SS (in)

## LM2593HVT-5.0
designator U?
SIMPLE SWITCHER Power Converter 150 KHz 2A Step-Down Voltage Regulator with Features; PartNumber: LM2593HVT-5.0; Manufacturer: National Semiconductor; PackageTopMarking: NSUZXYTT*LM2593HVT*-5.0 P+; Published: 4-Dec-2008; PackageVersion: revC, Apr-1999; PackageReference: TA07B; Publisher: Altium Limited; PackageDescription: TO-220, Molded, .400 x .590 x .180in Body, 7 Lead, .050in Pitch, Staggered; CompType: Switcher; RoHS: Y; PinCount: 7; DigiKeyPartNumber: LM2593HVT-5.0-ND; Code_JEDEC: TO-220-AB; ComponentLink1Description: LM2593HV Datasheet; ComponentLink1URL: http://www.national.com/ds/LM/LM2593HV.pdf; ComponentLink2Description: LM2593HV Web Page; ComponentLink2URL: http://www.national.com/pf/LM/LM2593HV.html; ComponentLink3Description: TA07B Package Page; ComponentLink3URL: http://www.national.com/packaging/folders/ta07b.html
footprint TA07B (TO, Thru-Hole, Vertical, Heatsink Mounted; 7 Bent Staggered Leads; Pitch 1.27 mm)
pins: 1 VIN (power), 2 OUT (power), 3 FLAG (oc), 4 GND (power), 5 DELAY (in), 6 FB (in), 7 ~{SD}/SS (in)

## LM2593HVT-ADJ
designator U?
SIMPLE SWITCHER Power Converter 150 KHz 2A Step-Down Voltage Regulator with Features; PartNumber: LM2593HVT-ADJ; Manufacturer: National Semiconductor; PackageTopMarking: NSUZXYTT*LM2593HVT*-ADJ P+; Published: 4-Dec-2008; PackageVersion: revC, Apr-1999; PackageReference: TA07B; Publisher: Altium Limited; PackageDescription: TO-220, Molded, .400 x .590 x .180in Body, 7 Lead, .050in Pitch, Staggered; CompType: Switcher; RoHS: Y; PinCount: 7; DigiKeyPartNumber: LM2593HVT-ADJ-ND; Code_JEDEC: TO-220-AB; ComponentLink1Description: LM2593HV Datasheet; ComponentLink1URL: http://www.national.com/ds/LM/LM2593HV.pdf; ComponentLink2Description: LM2593HV Web Page; ComponentLink2URL: http://www.national.com/pf/LM/LM2593HV.html; ComponentLink3Description: TA07B Package Page; ComponentLink3URL: http://www.national.com/packaging/folders/ta07b.html
footprint TA07B (TO, Thru-Hole, Vertical, Heatsink Mounted; 7 Bent Staggered Leads; Pitch 1.27 mm)
pins: 1 VIN (power), 2 OUT (power), 3 FLAG (oc), 4 GND (power), 5 DELAY (in), 6 FB (in), 7 ~{SD}/SS (in)

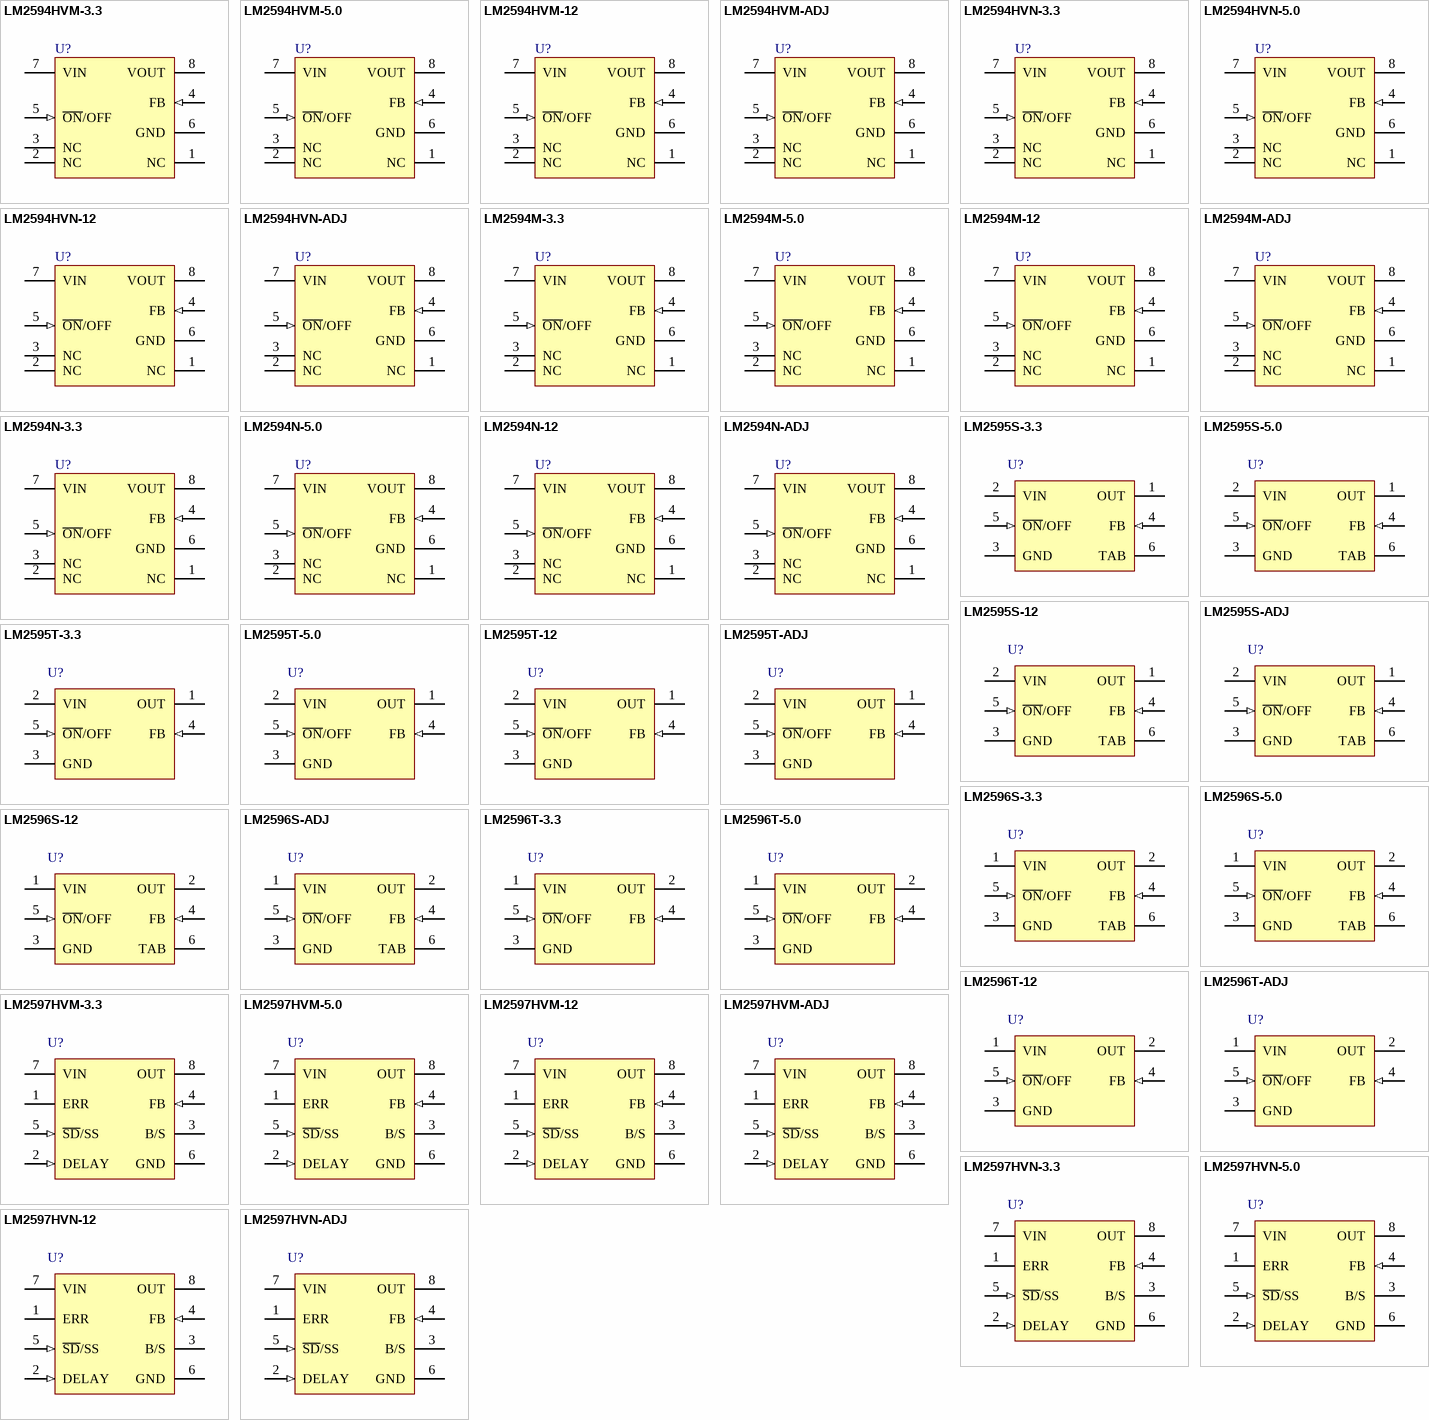
[diagram p4: symbols LM2594HVM-3.3 to LM2597HVN-ADJ]

## LM2594HVM-3.3
designator U?
SIMPLE SWITCHER Power Converter 150 kHz 0.5A Step-Down Voltage Regulator; PartNumber: LM2594HVM-3.3; Manufacturer: National Semiconductor; PackageTopMarking: NSZXTT*2594H*M-3.3; Published: 4-Dec-2008; PackageVersion: revL, Sep-2006; PackageReference: M08A; Publisher: Altium Limited; PackageDescription: SOIC Narrow, 4.9 x 3.9 x 1.45mm, 8 Lead, 1.27mm Pitch; CompType: Switcher; RoHS: O; PinCount: 8; DigiKeyPartNumber: LM2594HVM-3.3-ND; Code_JEDEC: MS-012-AA; Code_IPC: SOIC127P600-8; ComponentLink1Description: LM2594HV Datasheet; ComponentLink1URL: http://www.national.com/ds/LM/LM2594HV.pdf; ComponentLink2Description: LM2594HV Web Page; ComponentLink2URL: http://www.national.com/pf/LM/LM2594HV.html; ComponentLink3Description: M08A Package Page; ComponentLink3URL: http://www.national.com/packaging/folders/m08a.html
footprint M08A_N (SOIC, 8-Leads, Body 4.9x3.9mm, Pitch 1.27mm, IPC Medium Density)
footprint M08A_L (SOIC, 8-Leads, Body 4.9x3.9mm, Pitch 1.27mm, IPC High Density)
footprint M08A_M (SOIC, 8-Leads, Body 4.9x3.9mm, Pitch 1.27mm, IPC Low Density)
pins: 1 NC, 2 NC, 3 NC, 4 FB (in), 5 ~{ON}/OFF (in), 6 GND (power), 7 VIN (power), 8 VOUT (power)

## LM2594HVM-5.0
designator U?
SIMPLE SWITCHER Power Converter 150 kHz 0.5A Step-Down Voltage Regulator; PartNumber: LM2594HVM-5.0; Manufacturer: National Semiconductor; PackageTopMarking: NSZXTT*2594H*M-5.0; Published: 4-Dec-2008; PackageVersion: revL, Sep-2006; PackageReference: M08A; Publisher: Altium Limited; PackageDescription: SOIC Narrow, 4.9 x 3.9 x 1.45mm, 8 Lead, 1.27mm Pitch; CompType: Switcher; RoHS: O; PinCount: 8; DigiKeyPartNumber: LM2594HVM-5.0-ND; Code_JEDEC: MS-012-AA; Code_IPC: SOIC127P600-8; ComponentLink1Description: LM2594HV Datasheet; ComponentLink1URL: http://www.national.com/ds/LM/LM2594HV.pdf; ComponentLink2Description: LM2594HV Web Page; ComponentLink2URL: http://www.national.com/pf/LM/LM2594HV.html; ComponentLink3Description: M08A Package Page; ComponentLink3URL: http://www.national.com/packaging/folders/m08a.html
footprint M08A_N (SOIC, 8-Leads, Body 4.9x3.9mm, Pitch 1.27mm, IPC Medium Density)
footprint M08A_L (SOIC, 8-Leads, Body 4.9x3.9mm, Pitch 1.27mm, IPC High Density)
footprint M08A_M (SOIC, 8-Leads, Body 4.9x3.9mm, Pitch 1.27mm, IPC Low Density)
pins: 1 NC, 2 NC, 3 NC, 4 FB (in), 5 ~{ON}/OFF (in), 6 GND (power), 7 VIN (power), 8 VOUT (power)

## LM2594HVM-12
designator U?
SIMPLE SWITCHER Power Converter 150 kHz 0.5A Step-Down Voltage Regulator; PartNumber: LM2594HVM-12; Manufacturer: National Semiconductor; PackageTopMarking: NSZXTT*2594H*M-12; Published: 4-Dec-2008; PackageVersion: revL, Sep-2006; PackageReference: M08A; Publisher: Altium Limited; PackageDescription: SOIC Narrow, 4.9 x 3.9 x 1.45mm, 8 Lead, 1.27mm Pitch; CompType: Switcher; RoHS: O; PinCount: 8; DigiKeyPartNumber: LM2594HVM-12-ND; Code_JEDEC: MS-012-AA; Code_IPC: SOIC127P600-8; ComponentLink1Description: LM2594HV Datasheet; ComponentLink1URL: http://www.national.com/ds/LM/LM2594HV.pdf; ComponentLink2Description: LM2594HV Web Page; ComponentLink2URL: http://www.national.com/pf/LM/LM2594HV.html; ComponentLink3Description: M08A Package Page; ComponentLink3URL: http://www.national.com/packaging/folders/m08a.html
footprint M08A_N (SOIC, 8-Leads, Body 4.9x3.9mm, Pitch 1.27mm, IPC Medium Density)
footprint M08A_L (SOIC, 8-Leads, Body 4.9x3.9mm, Pitch 1.27mm, IPC High Density)
footprint M08A_M (SOIC, 8-Leads, Body 4.9x3.9mm, Pitch 1.27mm, IPC Low Density)
pins: 1 NC, 2 NC, 3 NC, 4 FB (in), 5 ~{ON}/OFF (in), 6 GND (power), 7 VIN (power), 8 VOUT (power)

## LM2594HVM-ADJ
designator U?
SIMPLE SWITCHER Power Converter 150 kHz 0.5A Step-Down Voltage Regulator; PartNumber: LM2594HVM-ADJ; Manufacturer: National Semiconductor; PackageTopMarking: NSZXTT*2594H*M-ADJ; Published: 4-Dec-2008; PackageVersion: revL, Sep-2006; PackageReference: M08A; Publisher: Altium Limited; PackageDescription: SOIC Narrow, 4.9 x 3.9 x 1.45mm, 8 Lead, 1.27mm Pitch; CompType: Switcher; RoHS: O; PinCount: 8; DigiKeyPartNumber: LM2594HVM-ADJ-ND; Code_JEDEC: MS-012-AA; Code_IPC: SOIC127P600-8; ComponentLink1Description: LM2594HV Datasheet; ComponentLink1URL: http://www.national.com/ds/LM/LM2594HV.pdf; ComponentLink2Description: LM2594HV Web Page; ComponentLink2URL: http://www.national.com/pf/LM/LM2594HV.html; ComponentLink3Description: M08A Package Page; ComponentLink3URL: http://www.national.com/packaging/folders/m08a.html
footprint M08A_N (SOIC, 8-Leads, Body 4.9x3.9mm, Pitch 1.27mm, IPC Medium Density)
footprint M08A_L (SOIC, 8-Leads, Body 4.9x3.9mm, Pitch 1.27mm, IPC High Density)
footprint M08A_M (SOIC, 8-Leads, Body 4.9x3.9mm, Pitch 1.27mm, IPC Low Density)
pins: 1 NC, 2 NC, 3 NC, 4 FB (in), 5 ~{ON}/OFF (in), 6 GND (power), 7 VIN (power), 8 VOUT (power)

## LM2594HVN-3.3
designator U?
SIMPLE SWITCHER Power Converter 150 kHz 0.5A Step-Down Voltage Regulator; PartNumber: LM2594HVN-3.3; Manufacturer: National Semiconductor; PackageTopMarking: NSUZXYTT*LM2594HV*N-3.3 P+; Published: 4-Dec-2008; PackageVersion: revG, May-2006; PackageReference: N08E; Publisher: Altium Limited; PackageDescription: MDIP, .365 x .250 x .130in, 8 Lead, .100in Pitch; CompType: Switcher; RoHS: Y; PinCount: 8; DigiKeyPartNumber: LM2594HVN-3.3-ND; Code_JEDEC: MS-001-BA; ComponentLink1Description: LM2594HV Datasheet; ComponentLink1URL: http://www.national.com/ds/LM/LM2594HV.pdf; ComponentLink2Description: LM2594HV Web Page; ComponentLink2URL: http://www.national.com/pf/LM/LM2594HV.html; ComponentLink3Description: N08E Package Page; ComponentLink3URL: http://www.national.com/packaging/folders/n08e.html
footprint N08E (DIP, 8-Leads, Row Spacing 7.62mm, Pitch 2.54mm, Body 9.91x6.35mm)
pins: 1 NC, 2 NC, 3 NC, 4 FB (in), 5 ~{ON}/OFF (in), 6 GND (power), 7 VIN (power), 8 VOUT (power)

## LM2594HVN-5.0
designator U?
SIMPLE SWITCHER Power Converter 150 kHz 0.5A Step-Down Voltage Regulator; PartNumber: LM2594HVN-5.0; Manufacturer: National Semiconductor; PackageTopMarking: NSUZXYTT*LM2594HV*N-5.0 P+; Published: 4-Dec-2008; PackageVersion: revG, May-2006; PackageReference: N08E; Publisher: Altium Limited; PackageDescription: MDIP, .365 x .250 x .130in, 8 Lead, .100in Pitch; CompType: Switcher; RoHS: O; PinCount: 8; DigiKeyPartNumber: LM2594HVN-5.0-ND; Code_JEDEC: MS-001-BA; ComponentLink1Description: LM2594HV Datasheet; ComponentLink1URL: http://www.national.com/ds/LM/LM2594HV.pdf; ComponentLink2Description: LM2594HV Web Page; ComponentLink2URL: http://www.national.com/pf/LM/LM2594HV.html; ComponentLink3Description: N08E Package Page; ComponentLink3URL: http://www.national.com/packaging/folders/n08e.html
footprint N08E (DIP, 8-Leads, Row Spacing 7.62mm, Pitch 2.54mm, Body 9.91x6.35mm)
pins: 1 NC, 2 NC, 3 NC, 4 FB (in), 5 ~{ON}/OFF (in), 6 GND (power), 7 VIN (power), 8 VOUT (power)

## LM2594HVN-12
designator U?
SIMPLE SWITCHER Power Converter 150 kHz 0.5A Step-Down Voltage Regulator; PartNumber: LM2594HVN-12; Manufacturer: National Semiconductor; PackageTopMarking: NSUZXYTT*LM2594HV*N-12 P+; Published: 4-Dec-2008; PackageVersion: revG, May-2006; PackageReference: N08E; Publisher: Altium Limited; PackageDescription: MDIP, .365 x .250 x .130in, 8 Lead, .100in Pitch; CompType: Switcher; RoHS: O; PinCount: 8; DigiKeyPartNumber: LM2594HVN-12-ND; Code_JEDEC: MS-001-BA; ComponentLink1Description: LM2594HV Datasheet; ComponentLink1URL: http://www.national.com/ds/LM/LM2594HV.pdf; ComponentLink2Description: LM2594HV Web Page; ComponentLink2URL: http://www.national.com/pf/LM/LM2594HV.html; ComponentLink3Description: N08E Package Page; ComponentLink3URL: http://www.national.com/packaging/folders/n08e.html
footprint N08E (DIP, 8-Leads, Row Spacing 7.62mm, Pitch 2.54mm, Body 9.91x6.35mm)
pins: 1 NC, 2 NC, 3 NC, 4 FB (in), 5 ~{ON}/OFF (in), 6 GND (power), 7 VIN (power), 8 VOUT (power)

## LM2594HVN-ADJ
designator U?
SIMPLE SWITCHER Power Converter 150 kHz 0.5A Step-Down Voltage Regulator; PartNumber: LM2594HVN-ADJ; Manufacturer: National Semiconductor; PackageTopMarking: NSUZXYTT*LM2594HV*N-ADJ P+; Published: 4-Dec-2008; PackageVersion: revG, May-2006; PackageReference: N08E; Publisher: Altium Limited; PackageDescription: MDIP, .365 x .250 x .130in, 8 Lead, .100in Pitch; CompType: Switcher; RoHS: Y; PinCount: 8; DigiKeyPartNumber: LM2594HVN-ADJ-ND; Code_JEDEC: MS-001-BA; ComponentLink1Description: LM2594HV Datasheet; ComponentLink1URL: http://www.national.com/ds/LM/LM2594HV.pdf; ComponentLink2Description: LM2594HV Web Page; ComponentLink2URL: http://www.national.com/pf/LM/LM2594HV.html; ComponentLink3Description: N08E Package Page; ComponentLink3URL: http://www.national.com/packaging/folders/n08e.html
footprint N08E (DIP, 8-Leads, Row Spacing 7.62mm, Pitch 2.54mm, Body 9.91x6.35mm)
pins: 1 NC, 2 NC, 3 NC, 4 FB (in), 5 ~{ON}/OFF (in), 6 GND (power), 7 VIN (power), 8 VOUT (power)

## LM2594M-3.3
designator U?
SIMPLE SWITCHER Power Converter 150 KHz 0.5A Step-Down Voltage Regulator; PartNumber: LM2594M-3.3; Manufacturer: National Semiconductor; PackageTopMarking: NSZXTT*2594*M-3.3; Published: 4-Dec-2008; PackageVersion: revL, Sep-2006; PackageReference: M08A; Publisher: Altium Limited; PackageDescription: SOIC Narrow, 4.9 x 3.9 x 1.45mm, 8 Lead, 1.27mm Pitch; CompType: Switcher; RoHS: O; PinCount: 8; DigiKeyPartNumber: LM2594M-3.3-ND; Code_JEDEC: MS-012-AA; Code_IPC: SOIC127P600-8; ComponentLink1Description: LM2594 Datasheet; ComponentLink1URL: http://www.national.com/ds/LM/LM2594.pdf; ComponentLink2Description: LM2594 Web Page; ComponentLink2URL: http://www.national.com/pf/LM/LM2594.html; ComponentLink3Description: M08A Package Page; ComponentLink3URL: http://www.national.com/packaging/folders/m08a.html
footprint M08A_N (SOIC, 8-Leads, Body 4.9x3.9mm, Pitch 1.27mm, IPC Medium Density)
footprint M08A_L (SOIC, 8-Leads, Body 4.9x3.9mm, Pitch 1.27mm, IPC High Density)
footprint M08A_M (SOIC, 8-Leads, Body 4.9x3.9mm, Pitch 1.27mm, IPC Low Density)
pins: 1 NC, 2 NC, 3 NC, 4 FB (in), 5 ~{ON}/OFF (in), 6 GND (power), 7 VIN (power), 8 VOUT (power)

## LM2594M-5.0
designator U?
SIMPLE SWITCHER Power Converter 150 KHz 0.5A Step-Down Voltage Regulator; PartNumber: LM2594M-5.0; Manufacturer: National Semiconductor; PackageTopMarking: NSZXTT*2594*M-5.0; Published: 4-Dec-2008; PackageVersion: revL, Sep-2006; PackageReference: M08A; Publisher: Altium Limited; PackageDescription: SOIC Narrow, 4.9 x 3.9 x 1.45mm, 8 Lead, 1.27mm Pitch; CompType: Switcher; RoHS: O; PinCount: 8; DigiKeyPartNumber: LM2594M-5.0-ND; Code_JEDEC: MS-012-AA; Code_IPC: SOIC127P600-8; ComponentLink1Description: LM2594 Datasheet; ComponentLink1URL: http://www.national.com/ds/LM/LM2594.pdf; ComponentLink2Description: LM2594 Web Page; ComponentLink2URL: http://www.national.com/pf/LM/LM2594.html; ComponentLink3Description: M08A Package Page; ComponentLink3URL: http://www.national.com/packaging/folders/m08a.html
footprint M08A_N (SOIC, 8-Leads, Body 4.9x3.9mm, Pitch 1.27mm, IPC Medium Density)
footprint M08A_L (SOIC, 8-Leads, Body 4.9x3.9mm, Pitch 1.27mm, IPC High Density)
footprint M08A_M (SOIC, 8-Leads, Body 4.9x3.9mm, Pitch 1.27mm, IPC Low Density)
pins: 1 NC, 2 NC, 3 NC, 4 FB (in), 5 ~{ON}/OFF (in), 6 GND (power), 7 VIN (power), 8 VOUT (power)

## LM2594M-12
designator U?
SIMPLE SWITCHER Power Converter 150 KHz 0.5A Step-Down Voltage Regulator; PartNumber: LM2594M-12; Manufacturer: National Semiconductor; PackageTopMarking: NSZXTT*2594*M-12; Published: 4-Dec-2008; PackageVersion: revL, Sep-2006; PackageReference: M08A; Publisher: Altium Limited; PackageDescription: SOIC Narrow, 4.9 x 3.9 x 1.45mm, 8 Lead, 1.27mm Pitch; CompType: Switcher; RoHS: O; PinCount: 8; DigiKeyPartNumber: LM2594M-12-ND; Code_JEDEC: MS-012-AA; Code_IPC: SOIC127P600-8; ComponentLink1Description: LM2594 Datasheet; ComponentLink1URL: http://www.national.com/ds/LM/LM2594.pdf; ComponentLink2Description: LM2594 Web Page; ComponentLink2URL: http://www.national.com/pf/LM/LM2594.html; ComponentLink3Description: M08A Package Page; ComponentLink3URL: http://www.national.com/packaging/folders/m08a.html
footprint M08A_N (SOIC, 8-Leads, Body 4.9x3.9mm, Pitch 1.27mm, IPC Medium Density)
footprint M08A_L (SOIC, 8-Leads, Body 4.9x3.9mm, Pitch 1.27mm, IPC High Density)
footprint M08A_M (SOIC, 8-Leads, Body 4.9x3.9mm, Pitch 1.27mm, IPC Low Density)
pins: 1 NC, 2 NC, 3 NC, 4 FB (in), 5 ~{ON}/OFF (in), 6 GND (power), 7 VIN (power), 8 VOUT (power)

## LM2594M-ADJ
designator U?
SIMPLE SWITCHER Power Converter 150 KHz 0.5A Step-Down Voltage Regulator; PartNumber: LM2594M-ADJ; Manufacturer: National Semiconductor; PackageTopMarking: NSZXTT*2594*M-ADJ; Published: 4-Dec-2008; PackageVersion: revL, Sep-2006; PackageReference: M08A; Publisher: Altium Limited; PackageDescription: SOIC Narrow, 4.9 x 3.9 x 1.45mm, 8 Lead, 1.27mm Pitch; CompType: Switcher; RoHS: O; PinCount: 8; DigiKeyPartNumber: LM2594M-ADJ-ND; Code_JEDEC: MS-012-AA; Code_IPC: SOIC127P600-8; ComponentLink1Description: LM2594 Datasheet; ComponentLink1URL: http://www.national.com/ds/LM/LM2594.pdf; ComponentLink2Description: LM2594 Web Page; ComponentLink2URL: http://www.national.com/pf/LM/LM2594.html; ComponentLink3Description: M08A Package Page; ComponentLink3URL: http://www.national.com/packaging/folders/m08a.html
footprint M08A_N (SOIC, 8-Leads, Body 4.9x3.9mm, Pitch 1.27mm, IPC Medium Density)
footprint M08A_L (SOIC, 8-Leads, Body 4.9x3.9mm, Pitch 1.27mm, IPC High Density)
footprint M08A_M (SOIC, 8-Leads, Body 4.9x3.9mm, Pitch 1.27mm, IPC Low Density)
pins: 1 NC, 2 NC, 3 NC, 4 FB (in), 5 ~{ON}/OFF (in), 6 GND (power), 7 VIN (power), 8 VOUT (power)

## LM2594N-3.3
designator U?
SIMPLE SWITCHER Power Converter 150 KHz 0.5A Step-Down Voltage Regulator; PartNumber: LM2594N-3.3; Manufacturer: National Semiconductor; PackageTopMarking: NSUZXYTT*LM2594N*-3.3 P+; Published: 4-Dec-2008; PackageVersion: revG, May-2006; PackageReference: N08E; Publisher: Altium Limited; PackageDescription: MDIP, .365 x .250 x .130in, 8 Lead, .100in Pitch; CompType: Switcher; RoHS: Y; PinCount: 8; DigiKeyPartNumber: LM2594N-3.3-ND; Code_JEDEC: MS-001-BA; ComponentLink1Description: LM2594 Datasheet; ComponentLink1URL: http://www.national.com/ds/LM/LM2594.pdf; ComponentLink2Description: LM2594 Web Page; ComponentLink2URL: http://www.national.com/pf/LM/LM2594.html; ComponentLink3Description: N08E Package Page; ComponentLink3URL: http://www.national.com/packaging/folders/n08e.html
footprint N08E (DIP, 8-Leads, Row Spacing 7.62mm, Pitch 2.54mm, Body 9.91x6.35mm)
pins: 1 NC, 2 NC, 3 NC, 4 FB (in), 5 ~{ON}/OFF (in), 6 GND (power), 7 VIN (power), 8 VOUT (power)

## LM2594N-5.0
designator U?
SIMPLE SWITCHER Power Converter 150 KHz 0.5A Step-Down Voltage Regulator; PartNumber: LM2594N-5.0; Manufacturer: National Semiconductor; PackageTopMarking: NSUZXYTT*LM2594N*-5.0 P+; Published: 4-Dec-2008; PackageVersion: revG, May-2006; PackageReference: N08E; Publisher: Altium Limited; PackageDescription: MDIP, .365 x .250 x .130in, 8 Lead, .100in Pitch; CompType: Switcher; RoHS: O; PinCount: 8; DigiKeyPartNumber: LM2594N-5.0-ND; Code_JEDEC: MS-001-BA; ComponentLink1Description: LM2594 Datasheet; ComponentLink1URL: http://www.national.com/ds/LM/LM2594.pdf; ComponentLink2Description: LM2594 Web Page; ComponentLink2URL: http://www.national.com/pf/LM/LM2594.html; ComponentLink3Description: N08E Package Page; ComponentLink3URL: http://www.national.com/packaging/folders/n08e.html
footprint N08E (DIP, 8-Leads, Row Spacing 7.62mm, Pitch 2.54mm, Body 9.91x6.35mm)
pins: 1 NC, 2 NC, 3 NC, 4 FB (in), 5 ~{ON}/OFF (in), 6 GND (power), 7 VIN (power), 8 VOUT (power)

## LM2594N-12
designator U?
SIMPLE SWITCHER Power Converter 150 KHz 0.5A Step-Down Voltage Regulator; PartNumber: LM2594N-12; Manufacturer: National Semiconductor; PackageTopMarking: NSUZXYTT*LM2594N*-12 P+; Published: 4-Dec-2008; PackageVersion: revG, May-2006; PackageReference: N08E; Publisher: Altium Limited; PackageDescription: MDIP, .365 x .250 x .130in, 8 Lead, .100in Pitch; CompType: Switcher; RoHS: O; PinCount: 8; DigiKeyPartNumber: LM2594N-12-ND; Code_JEDEC: MS-001-BA; ComponentLink1Description: LM2594 Datasheet; ComponentLink1URL: http://www.national.com/ds/LM/LM2594.pdf; ComponentLink2Description: LM2594 Web Page; ComponentLink2URL: http://www.national.com/pf/LM/LM2594.html; ComponentLink3Description: N08E Package Page; ComponentLink3URL: http://www.national.com/packaging/folders/n08e.html
footprint N08E (DIP, 8-Leads, Row Spacing 7.62mm, Pitch 2.54mm, Body 9.91x6.35mm)
pins: 1 NC, 2 NC, 3 NC, 4 FB (in), 5 ~{ON}/OFF (in), 6 GND (power), 7 VIN (power), 8 VOUT (power)

## LM2594N-ADJ
designator U?
SIMPLE SWITCHER Power Converter 150 KHz 0.5A Step-Down Voltage Regulator; PartNumber: LM2594N-ADJ; Manufacturer: National Semiconductor; PackageTopMarking: NSUZXYTT*LM2594N*-ADJ P+; Published: 4-Dec-2008; PackageVersion: revG, May-2006; PackageReference: N08E; Publisher: Altium Limited; PackageDescription: MDIP, .365 x .250 x .130in, 8 Lead, .100in Pitch; CompType: Switcher; RoHS: O; PinCount: 8; DigiKeyPartNumber: LM2594N-ADJ-ND; Code_JEDEC: MS-001-BA; ComponentLink1Description: LM2594 Datasheet; ComponentLink1URL: http://www.national.com/ds/LM/LM2594.pdf; ComponentLink2Description: LM2594 Web Page; ComponentLink2URL: http://www.national.com/pf/LM/LM2594.html; ComponentLink3Description: N08E Package Page; ComponentLink3URL: http://www.national.com/packaging/folders/n08e.html
footprint N08E (DIP, 8-Leads, Row Spacing 7.62mm, Pitch 2.54mm, Body 9.91x6.35mm)
pins: 1 NC, 2 NC, 3 NC, 4 FB (in), 5 ~{ON}/OFF (in), 6 GND (power), 7 VIN (power), 8 VOUT (power)